# Altium schematic symbol library ZC323000.SchLib: 1 symbol
Pins are listed as number, name and electrical type; pins without a type are passive.

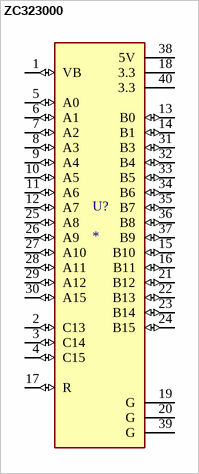
[diagram p0: symbol ZC323000]

## ZC323000
designator U?
STM32F103C8T6 ARM STM32 Minimum System Development Board Module For Arduino; MP: ZC323000; Package: None; Value: *; Availability: Unavailable; Price: None
footprint MODULE_ZC323000
pins: 1 VB (io), 2 C13 (io), 3 C14 (io), 4 C15 (io), 5 A0 (io), 6 A1 (io), 7 A2 (io), 8 A3 (io), 9 A4 (io), 10 A5 (io), 11 A6 (io), 12 A7 (io), 13 B0 (io), 14 B1 (io), 15 B10 (io), 16 B11 (io), 17 R (io), 18 3.3 (power), 19 G (power), 20 G (power), 21 B12 (io), 22 B13 (io), 23 B14 (io), 24 B15 (io), 25 A8 (io), 26 A9 (io), 27 A10 (io), 28 A11 (io), 29 A12 (io), 30 A15 (io), 31 B3 (io), 32 B4 (io), 33 B5 (io), 34 B6 (io), 35 B7 (io), 36 B8 (io), 37 B9 (io), 38 5V (power), 39 G (power), 40 3.3 (power)